# Altium schematic symbol library TPS65133DPDR.SchLib: 1 symbol
Pins are listed as number, name and electrical type; pins without a type are passive.

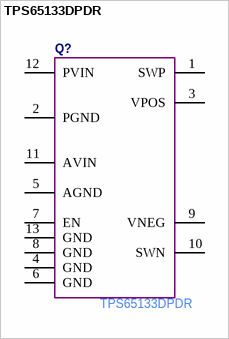
[diagram p0: symbol TPS65133DPDR]

## TPS65133DPDR
designator Q?  Manufacturer Part Number: TPS65133DPDR  (hidden comment: *)
pins: 1 SWP, 2 PGND, 3 VPOS, 4 GND, 5 AGND, 6 GND, 7 EN, 8 GND, 9 VNEG, 10 SWN, 11 AVIN, 12 PVIN, 13 GND